# Altium integrated library TI Power Management LDO Single Channel(400-7500mA).IntLib: 1409 symbols (part 56 of 60)
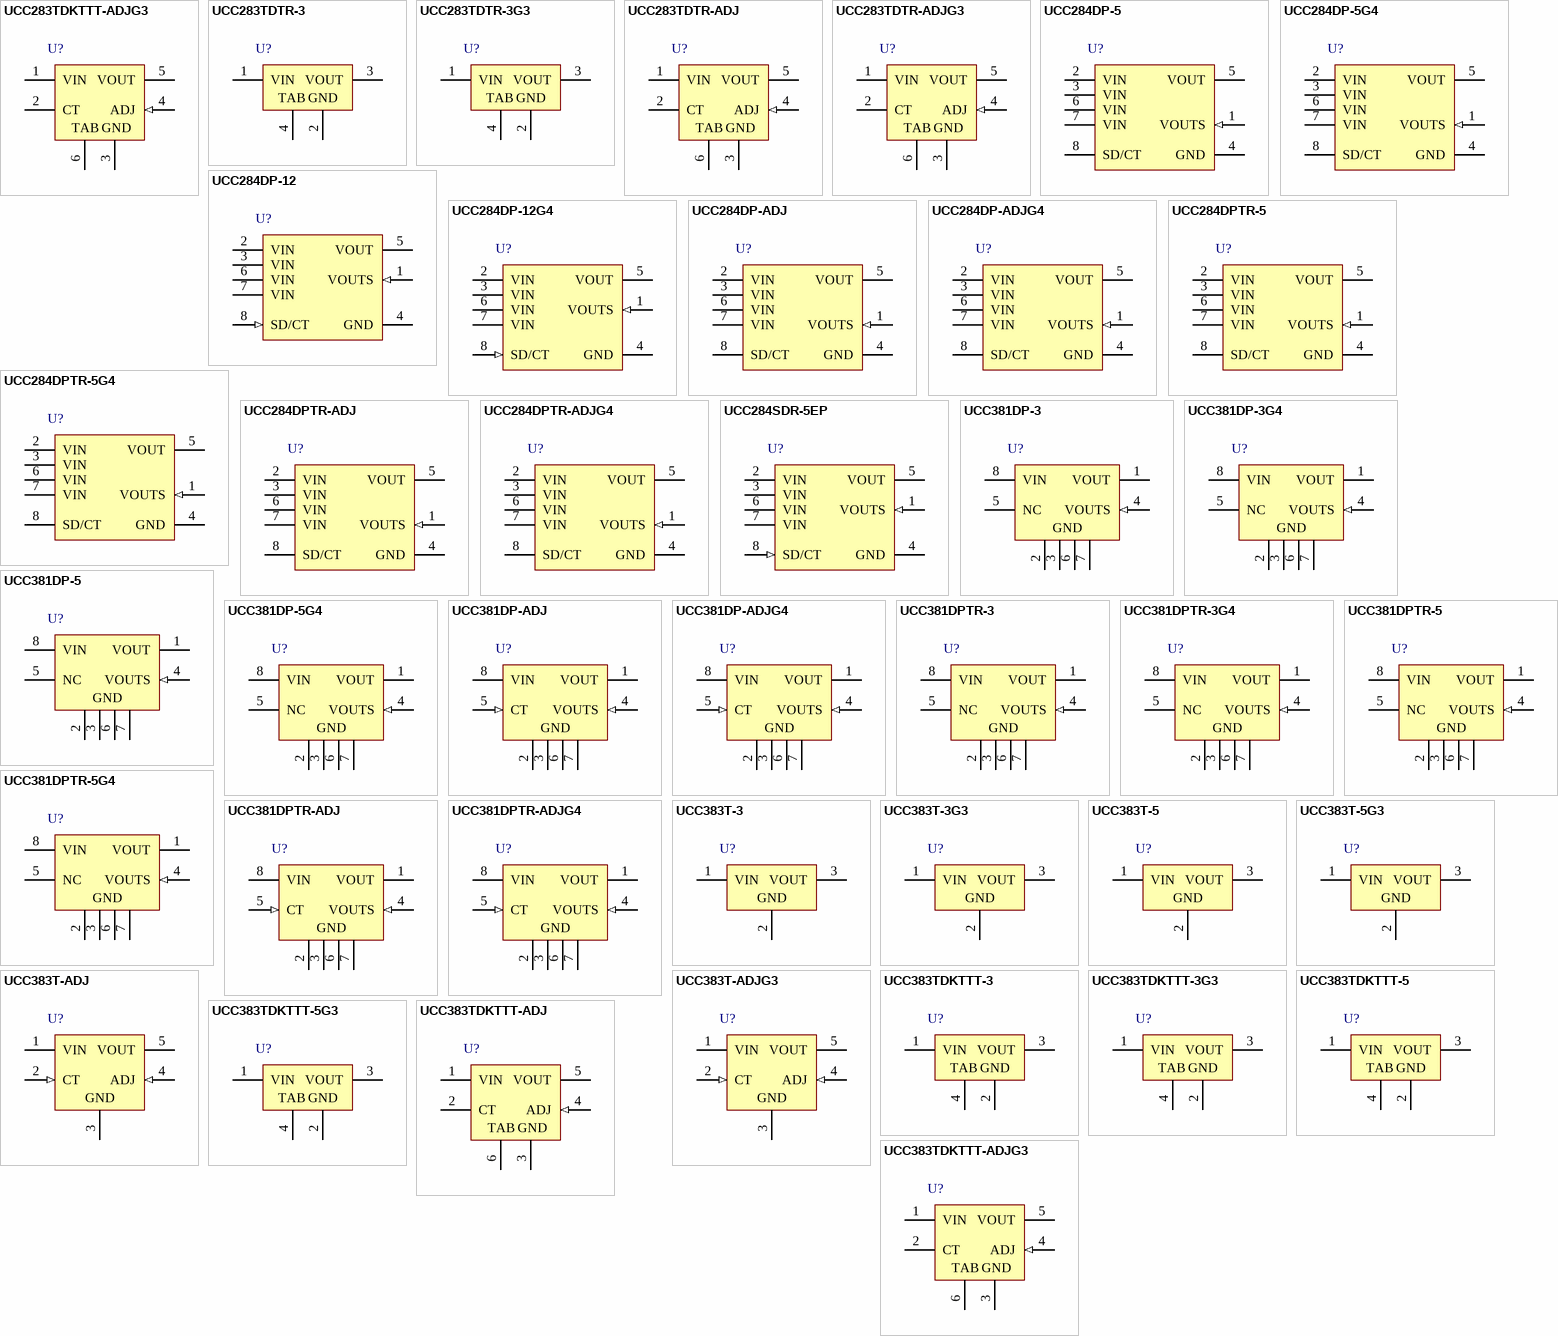
[diagram p105: symbols UCC283TDKTTT-ADJG3 to UCC383TDKTTT-ADJG3]

## UCC284DP-ADJG4
designator U?
Single Output LDO, 500 mA, Adjustable -1.25 to -15 V Output, -3.2 to -15 V Input, with Low IQ, 8-pin SOIC (D), -40 to 85 degC, Green (RoHS & no Sb/Br); Manufacturer: Texas Instruments; PartNumber: UCC284DP-ADJG4; Accuracy(%): 2.5; Iout(Max)(A): 0.5; Iq(Typ)(mA): 0.2; SubFamily: Single Channel LDO; Vdo(Typ)(mV): 250; Vout Adj(Min)(V): -1.2; DatasheetVersion: SLUS234D; PackageVersion: 4040047-3/M; PackageReference: D8; PackageDescription: 8-Pin Plastic Small Outline, Body 4.9 x 3.9 mm, Pitch 1.27 mm; Supplier 1: Digi-Key; Supplier Part Number 1: UCC284DP-ADJG4-ND; Supplier 2: Newark; Supplier Part Number 2: 61K1960; Supplier 3: Mouser; Supplier Part Number 3: 595-UCC284DP-ADJG4; Eco-Plan: Green (RoHS & no Sb/Br); Vin(Max)(V): -15; Vin(Min)(V): -3.2; Vout Adj(Max)(V): -15; Mounting Technology: Surface Mount; Code_JEDEC: MS-012; ComponentLink1Description: Manufacturer URL; ComponentLink1URL: http://www.ti.com/; ComponentLink2Description: Datasheet; ComponentLink2URL: http://www.ti.com/general/docs/lit/getliterature.tsp?genericPartNumber=UCC284-ADJ&fileType=pdf; ComponentLink3Description: Package Specification; ComponentLink3URL: http://www.ti.com/litv/pdf/msoi002j
footprint TI-D8_N (SOIC, 8-Leads, Body 4.9x3.9mm, Pitch 1.27mm, IPC Medium Density)
footprint TI-D8_L (SOIC, 8-Leads, Body 4.9x3.9mm, Pitch 1.27mm, IPC High Density)
footprint TI-D8_M (SOIC, 8-Leads, Body 4.9x3.9mm, Pitch 1.27mm, IPC Low Density)
pins: 1 VOUTS (in) "This is the feedback pin for sensing the output of the regulator. For the UCC384-5 and UCC384-12 versions, VOUTS can be connected directly to VOUT. If the load is placed at a considerable distance from the regulator, the (See Datasheet)", 2 VIN (power) "This is the negative input supply. Bypass this pin to GND with at least 1 µF of low ESR or ESL capacitance.", 3 VIN (power) "This is the negative input supply. Bypass this pin to GND with at least 1 µF of low ESR or ESL capacitance.", 4 GND (power) "This is the low noise ground reference input. All voltages are measured with respect to the GND pin.", 5 VOUT (power) "Regulated negative-output voltage. A single 4.7-µF capacitor should be connected between this pin and GND. Smaller value capacitors can be used for light loads, but this degrades the load-step performance of the regulator.", 6 VIN (power) "This is the negative input supply. Bypass this pin to GND with at least 1 µF of low ESR or ESL capacitance.", 7 VIN (power) "This is the negative input supply. Bypass this pin to GND with at least 1 µF of low ESR or ESL capacitance.", 8 SD/CT "This is the shutdown pin and also the short-circuit timing pin. Pulling this pin more positive than -0.7 V puts the circuit in a low-current shutdown mode. Placing a timing capacitor between this pin and GND sets the (See Datasheet)"

## UCC284DPTR-5
designator U?
Single Output LDO, 500 mA, Fixed -5 V Output, -3.2 to -15 V Input, with Low IQ, 8-pin SOIC (D), -40 to 85 degC, Green (RoHS & no Sb/Br); Manufacturer: Texas Instruments; PartNumber: UCC284DPTR-5; Accuracy(%): 2.5; Iout(Max)(A): 0.5; Iq(Typ)(mA): 0.2; SubFamily: Single Channel LDO; Vdo(Typ)(mV): 200; DatasheetVersion: SLUS234D; PackageVersion: 4040047-3/M; PackageReference: D8; PackageDescription: 8-Pin Plastic Small Outline, Body 4.9 x 3.9 mm, Pitch 1.27 mm; Supplier 1: Digi-Key; Supplier Part Number 1: UCC284DPTR-5-ND; Supplier 2: Newark; Supplier Part Number 2: 77C2158; Supplier 3: Mouser; Supplier Part Number 3: 595-UCC284DPTR-5; Eco-Plan: Green (RoHS & no Sb/Br); Fixed Output Options(V): -5; Vin(Max)(V): -15; Vin(Min)(V): -3.2; Vout Adj(Max)(V): -5; Vout Adj(Min)(V): -5; Mounting Technology: Surface Mount; Code_JEDEC: MS-012; ComponentLink1Description: Manufacturer URL; ComponentLink1URL: http://www.ti.com/; ComponentLink2Description: Datasheet; ComponentLink2URL: http://www.ti.com/general/docs/lit/getliterature.tsp?genericPartNumber=UCC284-5&fileType=pdf; ComponentLink3Description: Package Specification; ComponentLink3URL: http://www.ti.com/litv/pdf/msoi002j
footprint TI-D8_N (SOIC, 8-Leads, Body 4.9x3.9mm, Pitch 1.27mm, IPC Medium Density)
footprint TI-D8_L (SOIC, 8-Leads, Body 4.9x3.9mm, Pitch 1.27mm, IPC High Density)
footprint TI-D8_M (SOIC, 8-Leads, Body 4.9x3.9mm, Pitch 1.27mm, IPC Low Density)
pins: 1 VOUTS (in) "This is the feedback pin for sensing the output of the regulator. For the UCC384-5 and UCC384-12 versions, VOUTS can be connected directly to VOUT. If the load is placed at a considerable distance from the regulator, the (See Datasheet)", 2 VIN (power) "This is the negative input supply. Bypass this pin to GND with at least 1 µF of low ESR or ESL capacitance.", 3 VIN (power) "This is the negative input supply. Bypass this pin to GND with at least 1 µF of low ESR or ESL capacitance.", 4 GND (power) "This is the low noise ground reference input. All voltages are measured with respect to the GND pin.", 5 VOUT (power) "Regulated negative-output voltage. A single 4.7-µF capacitor should be connected between this pin and GND. Smaller value capacitors can be used for light loads, but this degrades the load-step performance of the regulator.", 6 VIN (power) "This is the negative input supply. Bypass this pin to GND with at least 1 µF of low ESR or ESL capacitance.", 7 VIN (power) "This is the negative input supply. Bypass this pin to GND with at least 1 µF of low ESR or ESL capacitance.", 8 SD/CT "This is the shutdown pin and also the short-circuit timing pin. Pulling this pin more positive than -0.7 V puts the circuit in a low-current shutdown mode. Placing a timing capacitor between this pin and GND sets the (See Datasheet)"

## UCC284DPTR-5G4
designator U?
Single Output LDO, 500 mA, Fixed -5 V Output, -3.2 to -15 V Input, with Low IQ, 8-pin SOIC (D), -40 to 85 degC, Green (RoHS & no Sb/Br); Manufacturer: Texas Instruments; PartNumber: UCC284DPTR-5G4; Accuracy(%): 2.5; Iout(Max)(A): 0.5; Iq(Typ)(mA): 0.2; SubFamily: Single Channel LDO; Vdo(Typ)(mV): 200; DatasheetVersion: SLUS234D; PackageVersion: 4040047-3/M; PackageReference: D8; PackageDescription: 8-Pin Plastic Small Outline, Body 4.9 x 3.9 mm, Pitch 1.27 mm; Supplier 1: Digi-Key; Supplier Part Number 1: UCC284DPTR-5G4-ND; Supplier 2: Mouser; Supplier Part Number 2: 595-UCC284DPTR-5G4; Eco-Plan: Green (RoHS & no Sb/Br); Fixed Output Options(V): -5; Vin(Max)(V): -15; Vin(Min)(V): -3.2; Vout Adj(Max)(V): -5; Vout Adj(Min)(V): -5; Mounting Technology: Surface Mount; Code_JEDEC: MS-012; ComponentLink1Description: Manufacturer URL; ComponentLink1URL: http://www.ti.com/; ComponentLink2Description: Datasheet; ComponentLink2URL: http://www.ti.com/general/docs/lit/getliterature.tsp?genericPartNumber=UCC284-5&fileType=pdf; ComponentLink3Description: Package Specification; ComponentLink3URL: http://www.ti.com/litv/pdf/msoi002j
footprint TI-D8_N (SOIC, 8-Leads, Body 4.9x3.9mm, Pitch 1.27mm, IPC Medium Density)
footprint TI-D8_L (SOIC, 8-Leads, Body 4.9x3.9mm, Pitch 1.27mm, IPC High Density)
footprint TI-D8_M (SOIC, 8-Leads, Body 4.9x3.9mm, Pitch 1.27mm, IPC Low Density)
pins: 1 VOUTS (in) "This is the feedback pin for sensing the output of the regulator. For the UCC384-5 and UCC384-12 versions, VOUTS can be connected directly to VOUT. If the load is placed at a considerable distance from the regulator, the (See Datasheet)", 2 VIN (power) "This is the negative input supply. Bypass this pin to GND with at least 1 µF of low ESR or ESL capacitance.", 3 VIN (power) "This is the negative input supply. Bypass this pin to GND with at least 1 µF of low ESR or ESL capacitance.", 4 GND (power) "This is the low noise ground reference input. All voltages are measured with respect to the GND pin.", 5 VOUT (power) "Regulated negative-output voltage. A single 4.7-µF capacitor should be connected between this pin and GND. Smaller value capacitors can be used for light loads, but this degrades the load-step performance of the regulator.", 6 VIN (power) "This is the negative input supply. Bypass this pin to GND with at least 1 µF of low ESR or ESL capacitance.", 7 VIN (power) "This is the negative input supply. Bypass this pin to GND with at least 1 µF of low ESR or ESL capacitance.", 8 SD/CT "This is the shutdown pin and also the short-circuit timing pin. Pulling this pin more positive than -0.7 V puts the circuit in a low-current shutdown mode. Placing a timing capacitor between this pin and GND sets the (See Datasheet)"

## UCC284DPTR-ADJ
designator U?
Single Output LDO, 500 mA, Adjustable -1.25 to -15 V Output, -3.2 to -15 V Input, with Low IQ, 8-pin SOIC (D), -40 to 85 degC, Green (RoHS & no Sb/Br); Manufacturer: Texas Instruments; PartNumber: UCC284DPTR-ADJ; Accuracy(%): 2.5; Iout(Max)(A): 0.5; Iq(Typ)(mA): 0.2; SubFamily: Single Channel LDO; Vdo(Typ)(mV): 250; Vout Adj(Min)(V): -1.2; DatasheetVersion: SLUS234D; PackageVersion: 4040047-3/M; PackageReference: D8; PackageDescription: 8-Pin Plastic Small Outline, Body 4.9 x 3.9 mm, Pitch 1.27 mm; Supplier 1: Digi-Key; Supplier Part Number 1: UCC284DPTR-ADJ-ND; Supplier 2: Mouser; Supplier Part Number 2: 595-UCC284DPTR-ADJ; Eco-Plan: Green (RoHS & no Sb/Br); Vin(Max)(V): -15; Vin(Min)(V): -3.2; Vout Adj(Max)(V): -15; Mounting Technology: Surface Mount; Code_JEDEC: MS-012; ComponentLink1Description: Manufacturer URL; ComponentLink1URL: http://www.ti.com/; ComponentLink2Description: Datasheet; ComponentLink2URL: http://www.ti.com/general/docs/lit/getliterature.tsp?genericPartNumber=UCC284-ADJ&fileType=pdf; ComponentLink3Description: Package Specification; ComponentLink3URL: http://www.ti.com/litv/pdf/msoi002j
footprint TI-D8_N (SOIC, 8-Leads, Body 4.9x3.9mm, Pitch 1.27mm, IPC Medium Density)
footprint TI-D8_L (SOIC, 8-Leads, Body 4.9x3.9mm, Pitch 1.27mm, IPC High Density)
footprint TI-D8_M (SOIC, 8-Leads, Body 4.9x3.9mm, Pitch 1.27mm, IPC Low Density)
pins: 1 VOUTS (in) "This is the feedback pin for sensing the output of the regulator. For the UCC384-5 and UCC384-12 versions, VOUTS can be connected directly to VOUT. If the load is placed at a considerable distance from the regulator, the (See Datasheet)", 2 VIN (power) "This is the negative input supply. Bypass this pin to GND with at least 1 µF of low ESR or ESL capacitance.", 3 VIN (power) "This is the negative input supply. Bypass this pin to GND with at least 1 µF of low ESR or ESL capacitance.", 4 GND (power) "This is the low noise ground reference input. All voltages are measured with respect to the GND pin.", 5 VOUT (power) "Regulated negative-output voltage. A single 4.7-µF capacitor should be connected between this pin and GND. Smaller value capacitors can be used for light loads, but this degrades the load-step performance of the regulator.", 6 VIN (power) "This is the negative input supply. Bypass this pin to GND with at least 1 µF of low ESR or ESL capacitance.", 7 VIN (power) "This is the negative input supply. Bypass this pin to GND with at least 1 µF of low ESR or ESL capacitance.", 8 SD/CT "This is the shutdown pin and also the short-circuit timing pin. Pulling this pin more positive than -0.7 V puts the circuit in a low-current shutdown mode. Placing a timing capacitor between this pin and GND sets the (See Datasheet)"

## UCC284DPTR-ADJG4
designator U?
Single Output LDO, 500 mA, Adjustable -1.25 to -15 V Output, -3.2 to -15 V Input, with Low IQ, 8-pin SOIC (D), -40 to 85 degC, Green (RoHS & no Sb/Br); Manufacturer: Texas Instruments; PartNumber: UCC284DPTR-ADJG4; Accuracy(%): 2.5; Iout(Max)(A): 0.5; Iq(Typ)(mA): 0.2; SubFamily: Single Channel LDO; Vdo(Typ)(mV): 250; Vout Adj(Min)(V): -1.2; DatasheetVersion: SLUS234D; PackageVersion: 4040047-3/M; PackageReference: D8; PackageDescription: 8-Pin Plastic Small Outline, Body 4.9 x 3.9 mm, Pitch 1.27 mm; Supplier 1: Digi-Key; Supplier Part Number 1: UCC284DPTR-ADJG4-ND; Supplier 2: Mouser; Supplier Part Number 2: 595-UCC284DPTR-ADJG4; Eco-Plan: Green (RoHS & no Sb/Br); Vin(Max)(V): -15; Vin(Min)(V): -3.2; Vout Adj(Max)(V): -15; Mounting Technology: Surface Mount; Code_JEDEC: MS-012; ComponentLink1Description: Manufacturer URL; ComponentLink1URL: http://www.ti.com/; ComponentLink2Description: Datasheet; ComponentLink2URL: http://www.ti.com/general/docs/lit/getliterature.tsp?genericPartNumber=UCC284-ADJ&fileType=pdf; ComponentLink3Description: Package Specification; ComponentLink3URL: http://www.ti.com/litv/pdf/msoi002j
footprint TI-D8_N (SOIC, 8-Leads, Body 4.9x3.9mm, Pitch 1.27mm, IPC Medium Density)
footprint TI-D8_L (SOIC, 8-Leads, Body 4.9x3.9mm, Pitch 1.27mm, IPC High Density)
footprint TI-D8_M (SOIC, 8-Leads, Body 4.9x3.9mm, Pitch 1.27mm, IPC Low Density)
pins: 1 VOUTS (in) "This is the feedback pin for sensing the output of the regulator. For the UCC384-5 and UCC384-12 versions, VOUTS can be connected directly to VOUT. If the load is placed at a considerable distance from the regulator, the (See Datasheet)", 2 VIN (power) "This is the negative input supply. Bypass this pin to GND with at least 1 µF of low ESR or ESL capacitance.", 3 VIN (power) "This is the negative input supply. Bypass this pin to GND with at least 1 µF of low ESR or ESL capacitance.", 4 GND (power) "This is the low noise ground reference input. All voltages are measured with respect to the GND pin.", 5 VOUT (power) "Regulated negative-output voltage. A single 4.7-µF capacitor should be connected between this pin and GND. Smaller value capacitors can be used for light loads, but this degrades the load-step performance of the regulator.", 6 VIN (power) "This is the negative input supply. Bypass this pin to GND with at least 1 µF of low ESR or ESL capacitance.", 7 VIN (power) "This is the negative input supply. Bypass this pin to GND with at least 1 µF of low ESR or ESL capacitance.", 8 SD/CT "This is the shutdown pin and also the short-circuit timing pin. Pulling this pin more positive than -0.7 V puts the circuit in a low-current shutdown mode. Placing a timing capacitor between this pin and GND sets the (See Datasheet)"

## UCC284SDR-5EP
designator U?
Single Output LDO, 500 mA, Fixed -5 V Output, -3.2 to -15 V Input, with Low IQ, 8-pin SOIC (D), -55 to 100 degC, Green (RoHS & no Sb/Br); Manufacturer: Texas Instruments; PartNumber: UCC284SDR-5EP; Accuracy(%): 2.5; Iout(Max)(A): 0.5; Iq(Typ)(mA): 0.2; SubFamily: Single Channel LDO; Vdo(Typ)(mV): 200; DatasheetVersion: SLVS862A; PackageVersion: 4040047-3/M; PackageReference: D8; PackageDescription: 8-Pin Plastic Small Outline, Body 4.9 x 3.9 mm, Pitch 1.27 mm; Supplier 1: Digi-Key; Supplier Part Number 1: 296-24018-2-ND; Supplier 2: Digi-Key; Supplier Part Number 2: 296-24018-1-ND; Supplier 3: Digi-Key; Supplier Part Number 3: 296-24018-6-ND; Supplier 4: Newark; Supplier Part Number 4: 79R8630; Supplier 5: Mouser; Supplier Part Number 5: 595-UCC284SDR-5EP; Eco-Plan: Green (RoHS & no Sb/Br); Fixed Output Options(V): -5; Vin(Max)(V): -15; Vin(Min)(V): -3.2; Vout Adj(Max)(V): -5; Vout Adj(Min)(V): -5; Mounting Technology: Surface Mount; Code_JEDEC: MS-012; ComponentLink1Description: Manufacturer URL; ComponentLink1URL: http://www.ti.com/; ComponentLink2Description: Datasheet; ComponentLink2URL: http://www.ti.com/general/docs/lit/getliterature.tsp?genericPartNumber=UCC284-EP&fileType=pdf; ComponentLink3Description: Package Specification; ComponentLink3URL: http://www.ti.com/litv/pdf/msoi002j
footprint TI-D8_N (SOIC, 8-Leads, Body 4.9x3.9mm, Pitch 1.27mm, IPC Medium Density)
footprint TI-D8_L (SOIC, 8-Leads, Body 4.9x3.9mm, Pitch 1.27mm, IPC High Density)
footprint TI-D8_M (SOIC, 8-Leads, Body 4.9x3.9mm, Pitch 1.27mm, IPC Low Density)
pins: 1 VOUTS (in) "This is the feedback pin for sensing the output of the regulator.", 2 VIN (power) "This is the negative input supply.", 3 VIN (power) "This is the negative input supply.", 4 GND (power) "This is the low noise ground reference input. All voltages are measured with respect to the GND pin.", 5 VOUT (power) "Regulated negative-output voltage.", 6 VIN (power) "This is the negative input supply.", 7 VIN (power) "This is the negative input supply.", 8 SD/CT (in) "This is the shutdown pin and also the short-circuit timing pin. Pulling this pin more positive than -0.7 V puts the circuit in a low-current shutdown mode. Placing a timing capacitor between this pin and GND sets the (See Datasheet)"

## UCC381DP-3
designator U?
Single Output LDO, 1 A, Fixed 3.3 V Output, 3.9 to 9 V Input, with Low IQ, 8-pin SOIC (D), 0 to 70 degC, Green (RoHS & no Sb/Br); Manufacturer: Texas Instruments; PartNumber: UCC381DP-3; Accuracy(%): 2.5; Fixed Output Options(V): 3.3; Iout(Max)(A): 1; Iq(Typ)(mA): 0.4; Rating: Catalog; SubFamily: Single Channel LDO; Vdo(Typ)(mV): 500; Vin(Max)(V): 9; Vin(Min)(V): 3.9; DatasheetVersion: SLUS214B; PackageVersion: 4040047-3/M; PackageReference: D8; PackageDescription: 8-Pin Plastic Small Outline, Body 4.9 x 3.9 mm, Pitch 1.27 mm; Supplier 1: Digi-Key; Supplier Part Number 1: 296-2819-5-ND; Supplier 2: Newark; Supplier Part Number 2: 77C2438; Supplier 3: Mouser; Supplier Part Number 3: 595-UCC381DP-3; Eco-Plan: Green (RoHS & no Sb/Br); Vout Adj(Max)(V): 3.3; Vout Adj(Min)(V): 3.3; Mounting Technology: Surface Mount; Code_JEDEC: MS-012; ComponentLink1Description: Manufacturer URL; ComponentLink1URL: http://www.ti.com/; ComponentLink2Description: Datasheet; ComponentLink2URL: http://www.ti.com/general/docs/lit/getliterature.tsp?genericPartNumber=UCC381-3&fileType=pdf; ComponentLink3Description: Package Specification; ComponentLink3URL: http://www.ti.com/litv/pdf/msoi002j; ComponentLink4Description: URL Link1; ComponentLink4URL: Samples URL:http://www.ti.com/product/ucc381-3#samples
footprint TI-D8_N (SOIC, 8-Leads, Body 4.9x3.9mm, Pitch 1.27mm, IPC Medium Density)
footprint TI-D8_L (SOIC, 8-Leads, Body 4.9x3.9mm, Pitch 1.27mm, IPC High Density)
footprint TI-D8_M (SOIC, 8-Leads, Body 4.9x3.9mm, Pitch 1.27mm, IPC Low Density)
pins: 1 VOUT (power) "Output for regulator. The regulator does not require a minimum output capacitor for stability. Choose the appropriate size capacitor for the application with respect to the required transient loading. For example, if the (See Datasheet)", 2 GND (power) "All voltages are measured with respect to this pin.This is the low noise ground reference input for regulation. The output decoupling capacitor should be tied to PIN 7.", 3 GND (power) "All voltages are measured with respect to this pin.This is the low noise ground reference input for regulation. The output decoupling capacitor should be tied to PIN 7.", 4 VOUTS (in) "Feedback for regulator sensing of the output voltage. For loads which are a considerable resistive distance from the VOUT pin, the VOUTS pin can be used to move the resistance into the control loop of the regulator,thereby (See Datasheet)", 5 NC "No connection", 6 GND (power) "All voltages are measured with respect to this pin.This is the low noise ground reference input for regulation. The output decoupling capacitor should be tied to PIN 7.", 7 GND (power) "All voltages are measured with respect to this pin.This is the low noise ground reference input for regulation. The output decoupling capacitor should be tied to PIN 7.", 8 VIN (power) "Positive supply input for the regulator. Bypass this pin to GND with at least 1µF of low ESR, ESL capacitance if the source is located further than 1 inch from the device."

## UCC381DP-3G4
designator U?
Single Output LDO, 1 A, Fixed 3.3 V Output, 3.9 to 9 V Input, with Low IQ, 8-pin SOIC (D), 0 to 70 degC, Green (RoHS & no Sb/Br); Manufacturer: Texas Instruments; PartNumber: UCC381DP-3G4; Accuracy(%): 2.5; Fixed Output Options(V): 3.3; Iout(Max)(A): 1; Iq(Typ)(mA): 0.4; Rating: Catalog; SubFamily: Single Channel LDO; Vdo(Typ)(mV): 500; Vin(Max)(V): 9; Vin(Min)(V): 3.9; DatasheetVersion: SLUS214B; PackageVersion: 4040047-3/M; PackageReference: D8; PackageDescription: 8-Pin Plastic Small Outline, Body 4.9 x 3.9 mm, Pitch 1.27 mm; Supplier 1: Digi-Key; Supplier Part Number 1: UCC381DP-3G4-ND; Supplier 2: Mouser; Supplier Part Number 2: 595-UCC381DP-3G4; Eco-Plan: Green (RoHS & no Sb/Br); Vout Adj(Max)(V): 3.3; Vout Adj(Min)(V): 3.3; Mounting Technology: Surface Mount; Code_JEDEC: MS-012; ComponentLink1Description: Manufacturer URL; ComponentLink1URL: http://www.ti.com/; ComponentLink2Description: Datasheet; ComponentLink2URL: http://www.ti.com/general/docs/lit/getliterature.tsp?genericPartNumber=UCC381-3&fileType=pdf; ComponentLink3Description: Package Specification; ComponentLink3URL: http://www.ti.com/litv/pdf/msoi002j; ComponentLink4Description: URL Link1; ComponentLink4URL: Samples URL:http://www.ti.com/product/ucc381-3#samples
footprint TI-D8_N (SOIC, 8-Leads, Body 4.9x3.9mm, Pitch 1.27mm, IPC Medium Density)
footprint TI-D8_L (SOIC, 8-Leads, Body 4.9x3.9mm, Pitch 1.27mm, IPC High Density)
footprint TI-D8_M (SOIC, 8-Leads, Body 4.9x3.9mm, Pitch 1.27mm, IPC Low Density)
pins: 1 VOUT (power) "Output for regulator. The regulator does not require a minimum output capacitor for stability. Choose the appropriate size capacitor for the application with respect to the required transient loading. For example, if the (See Datasheet)", 2 GND (power) "All voltages are measured with respect to this pin.This is the low noise ground reference input for regulation. The output decoupling capacitor should be tied to PIN 7.", 3 GND (power) "All voltages are measured with respect to this pin.This is the low noise ground reference input for regulation. The output decoupling capacitor should be tied to PIN 7.", 4 VOUTS (in) "Feedback for regulator sensing of the output voltage. For loads which are a considerable resistive distance from the VOUT pin, the VOUTS pin can be used to move the resistance into the control loop of the regulator,thereby (See Datasheet)", 5 NC "No connection", 6 GND (power) "All voltages are measured with respect to this pin.This is the low noise ground reference input for regulation. The output decoupling capacitor should be tied to PIN 7.", 7 GND (power) "All voltages are measured with respect to this pin.This is the low noise ground reference input for regulation. The output decoupling capacitor should be tied to PIN 7.", 8 VIN (power) "Positive supply input for the regulator. Bypass this pin to GND with at least 1µF of low ESR, ESL capacitance if the source is located further than 1 inch from the device."

## UCC381DP-5
designator U?
Single Output LDO, 1 A, Fixed 5 V Output, 5.6 to 9 V Input, with Low IQ, 8-pin SOIC (D), 0 to 70 degC, Green (RoHS & no Sb/Br); Manufacturer: Texas Instruments; PartNumber: UCC381DP-5; Accuracy(%): 2.5; Fixed Output Options(V): 5; Iout(Max)(A): 1; Iq(Typ)(mA): 0.4; Rating: Catalog; SubFamily: Single Channel LDO; Vdo(Typ)(mV): 500; Vin(Max)(V): 9; Vin(Min)(V): 5.6; DatasheetVersion: SLUS214B; PackageVersion: 4040047-3/M; PackageReference: D8; PackageDescription: 8-Pin Plastic Small Outline, Body 4.9 x 3.9 mm, Pitch 1.27 mm; Supplier 1: Digi-Key; Supplier Part Number 1: 296-2820-5-ND; Supplier 2: Mouser; Supplier Part Number 2: 595-UCC381DP-5; Eco-Plan: Green (RoHS & no Sb/Br); Vout Adj(Max)(V): 5; Vout Adj(Min)(V): 5; Mounting Technology: Surface Mount; Code_JEDEC: MS-012; ComponentLink1Description: Manufacturer URL; ComponentLink1URL: http://www.ti.com/; ComponentLink2Description: Datasheet; ComponentLink2URL: http://www.ti.com/general/docs/lit/getliterature.tsp?genericPartNumber=UCC381-5&fileType=pdf; ComponentLink3Description: Package Specification; ComponentLink3URL: http://www.ti.com/litv/pdf/msoi002j; ComponentLink4Description: URL Link1; ComponentLink4URL: Samples URL:http://www.ti.com/product/ucc381-5#samples
footprint TI-D8_N (SOIC, 8-Leads, Body 4.9x3.9mm, Pitch 1.27mm, IPC Medium Density)
footprint TI-D8_L (SOIC, 8-Leads, Body 4.9x3.9mm, Pitch 1.27mm, IPC High Density)
footprint TI-D8_M (SOIC, 8-Leads, Body 4.9x3.9mm, Pitch 1.27mm, IPC Low Density)
pins: 1 VOUT (power) "Output for regulator. The regulator does not require a minimum output capacitor for stability. Choose the appropriate size capacitor for the application with respect to the required transient loading. For example, if the (See Datasheet)", 2 GND (power) "All voltages are measured with respect to this pin.This is the low noise ground reference input for regulation. The output decoupling capacitor should be tied to PIN 7.", 3 GND (power) "All voltages are measured with respect to this pin.This is the low noise ground reference input for regulation. The output decoupling capacitor should be tied to PIN 7.", 4 VOUTS (in) "Feedback for regulator sensing of the output voltage. For loads which are a considerable resistive distance from the VOUT pin, the VOUTS pin can be used to move the resistance into the control loop of the regulator,thereby (See Datasheet)", 5 NC "No connection", 6 GND (power) "All voltages are measured with respect to this pin.This is the low noise ground reference input for regulation. The output decoupling capacitor should be tied to PIN 7.", 7 GND (power) "All voltages are measured with respect to this pin.This is the low noise ground reference input for regulation. The output decoupling capacitor should be tied to PIN 7.", 8 VIN (power) "Positive supply input for the regulator. Bypass this pin to GND with at least 1µF of low ESR, ESL capacitance if the source is located further than 1 inch from the device."

## UCC381DP-5G4
designator U?
Single Output LDO, 1 A, Fixed 5 V Output, 5.6 to 9 V Input, with Low IQ, 8-pin SOIC (D), 0 to 70 degC, Green (RoHS & no Sb/Br); Manufacturer: Texas Instruments; PartNumber: UCC381DP-5G4; Accuracy(%): 2.5; Fixed Output Options(V): 5; Iout(Max)(A): 1; Iq(Typ)(mA): 0.4; Rating: Catalog; SubFamily: Single Channel LDO; Vdo(Typ)(mV): 500; Vin(Max)(V): 9; Vin(Min)(V): 5.6; DatasheetVersion: SLUS214B; PackageVersion: 4040047-3/M; PackageReference: D8; PackageDescription: 8-Pin Plastic Small Outline, Body 4.9 x 3.9 mm, Pitch 1.27 mm; Supplier 1: Digi-Key; Supplier Part Number 1: UCC381DP-5G4-ND; Supplier 2: Mouser; Supplier Part Number 2: 595-UCC381DP-5G4; Eco-Plan: Green (RoHS & no Sb/Br); Vout Adj(Max)(V): 5; Vout Adj(Min)(V): 5; Mounting Technology: Surface Mount; Code_JEDEC: MS-012; ComponentLink1Description: Manufacturer URL; ComponentLink1URL: http://www.ti.com/; ComponentLink2Description: Datasheet; ComponentLink2URL: http://www.ti.com/general/docs/lit/getliterature.tsp?genericPartNumber=UCC381-5&fileType=pdf; ComponentLink3Description: Package Specification; ComponentLink3URL: http://www.ti.com/litv/pdf/msoi002j; ComponentLink4Description: URL Link1; ComponentLink4URL: Samples URL:http://www.ti.com/product/ucc381-5#samples
footprint TI-D8_N (SOIC, 8-Leads, Body 4.9x3.9mm, Pitch 1.27mm, IPC Medium Density)
footprint TI-D8_L (SOIC, 8-Leads, Body 4.9x3.9mm, Pitch 1.27mm, IPC High Density)
footprint TI-D8_M (SOIC, 8-Leads, Body 4.9x3.9mm, Pitch 1.27mm, IPC Low Density)
pins: 1 VOUT (power) "Output for regulator. The regulator does not require a minimum output capacitor for stability. Choose the appropriate size capacitor for the application with respect to the required transient loading. For example, if the (See Datasheet)", 2 GND (power) "All voltages are measured with respect to this pin.This is the low noise ground reference input for regulation. The output decoupling capacitor should be tied to PIN 7.", 3 GND (power) "All voltages are measured with respect to this pin.This is the low noise ground reference input for regulation. The output decoupling capacitor should be tied to PIN 7.", 4 VOUTS (in) "Feedback for regulator sensing of the output voltage. For loads which are a considerable resistive distance from the VOUT pin, the VOUTS pin can be used to move the resistance into the control loop of the regulator,thereby (See Datasheet)", 5 NC "No connection", 6 GND (power) "All voltages are measured with respect to this pin.This is the low noise ground reference input for regulation. The output decoupling capacitor should be tied to PIN 7.", 7 GND (power) "All voltages are measured with respect to this pin.This is the low noise ground reference input for regulation. The output decoupling capacitor should be tied to PIN 7.", 8 VIN (power) "Positive supply input for the regulator. Bypass this pin to GND with at least 1µF of low ESR, ESL capacitance if the source is located further than 1 inch from the device."

## UCC381DP-ADJ
designator U?
Single Output LDO, 1 A, Adjustable 1.22 to 8.85 V Output, 1.8 to 9 V Input, with Low IQ, 8-pin SOIC (D), 0 to 70 degC, Green (RoHS & no Sb/Br); Manufacturer: Texas Instruments; PartNumber: UCC381DP-ADJ; Accuracy(%): 2.5; Iout(Max)(A): 1; Iq(Typ)(mA): 0.4; Rating: Catalog; SubFamily: Single Channel LDO; Vdo(Typ)(mV): 500; Vin(Max)(V): 9; Vin(Min)(V): 1.8; Vout Adj(Max)(V): 8.85; Vout Adj(Min)(V): 1.22; DatasheetVersion: SLUS214B; PackageVersion: 4040047-3/M; PackageReference: D8; PackageDescription: 8-Pin Plastic Small Outline, Body 4.9 x 3.9 mm, Pitch 1.27 mm; Supplier 1: Digi-Key; Supplier Part Number 1: 296-2821-5-ND; Supplier 2: Mouser; Supplier Part Number 2: 595-UCC381DP-ADJ; Eco-Plan: Green (RoHS & no Sb/Br); Mounting Technology: Surface Mount; Code_JEDEC: MS-012; ComponentLink1Description: Manufacturer URL; ComponentLink1URL: http://www.ti.com/; ComponentLink2Description: Datasheet; ComponentLink2URL: http://www.ti.com/general/docs/lit/getliterature.tsp?genericPartNumber=UCC381-ADJ&fileType=pdf; ComponentLink3Description: Package Specification; ComponentLink3URL: http://www.ti.com/litv/pdf/msoi002j; ComponentLink4Description: URL Link1; ComponentLink4URL: Samples URL:http://www.ti.com/product/ucc381-adj#samples
footprint TI-D8_N (SOIC, 8-Leads, Body 4.9x3.9mm, Pitch 1.27mm, IPC Medium Density)
footprint TI-D8_L (SOIC, 8-Leads, Body 4.9x3.9mm, Pitch 1.27mm, IPC High Density)
footprint TI-D8_M (SOIC, 8-Leads, Body 4.9x3.9mm, Pitch 1.27mm, IPC Low Density)
pins: 1 VOUT (power) "Output for regulator. The regulator does not require a minimum output capacitor for stability. Choose the appropriate size capacitor for the application with respect to the required transient loading. For example, if the (See Datasheet)", 2 GND (power) "All voltages are measured with respect to this pin.This is the low noise ground reference input for regulation. The output decoupling capacitor should be tied to PIN 7.", 3 GND (power) "All voltages are measured with respect to this pin.This is the low noise ground reference input for regulation. The output decoupling capacitor should be tied to PIN 7.", 4 VOUTS (in) "Feedback for regulator sensing of the output voltage. For loads which are a considerable resistive distance from the VOUT pin, the VOUTS pin can be used to move the resistance into the control loop of the regulator,thereby (See Datasheet)", 5 CT (in) "For UCC381-3 and UCC381-5 versions, this is the shutdown pin which, when pulled low, turns off the regulator output and puts the device in a low current state.For the UCC381-ADJ version, a capacitor is required between the (See Datasheet)", 6 GND (power) "All voltages are measured with respect to this pin.This is the low noise ground reference input for regulation. The output decoupling capacitor should be tied to PIN 7.", 7 GND (power) "All voltages are measured with respect to this pin.This is the low noise ground reference input for regulation. The output decoupling capacitor should be tied to PIN 7.", 8 VIN (power) "Positive supply input for the regulator. Bypass this pin to GND with at least 1µF of low ESR, ESL capacitance if the source is located further than 1 inch from the device."

## UCC381DP-ADJG4
designator U?
Single Output LDO, 1 A, Adjustable 1.22 to 8.85 V Output, 1.8 to 9 V Input, with Low IQ, 8-pin SOIC (D), 0 to 70 degC, Green (RoHS & no Sb/Br); Manufacturer: Texas Instruments; PartNumber: UCC381DP-ADJG4; Accuracy(%): 2.5; Iout(Max)(A): 1; Iq(Typ)(mA): 0.4; Rating: Catalog; SubFamily: Single Channel LDO; Vdo(Typ)(mV): 500; Vin(Max)(V): 9; Vin(Min)(V): 1.8; Vout Adj(Max)(V): 8.85; Vout Adj(Min)(V): 1.22; DatasheetVersion: SLUS214B; PackageVersion: 4040047-3/M; PackageReference: D8; PackageDescription: 8-Pin Plastic Small Outline, Body 4.9 x 3.9 mm, Pitch 1.27 mm; Supplier 1: Digi-Key; Supplier Part Number 1: UCC381DP-ADJG4-ND; Supplier 2: Mouser; Supplier Part Number 2: 595-UCC381DP-ADJG4; Eco-Plan: Green (RoHS & no Sb/Br); Mounting Technology: Surface Mount; Code_JEDEC: MS-012; ComponentLink1Description: Manufacturer URL; ComponentLink1URL: http://www.ti.com/; ComponentLink2Description: Datasheet; ComponentLink2URL: http://www.ti.com/general/docs/lit/getliterature.tsp?genericPartNumber=UCC381-ADJ&fileType=pdf; ComponentLink3Description: Package Specification; ComponentLink3URL: http://www.ti.com/litv/pdf/msoi002j; ComponentLink4Description: URL Link1; ComponentLink4URL: Samples URL:http://www.ti.com/product/ucc381-adj#samples
footprint TI-D8_N (SOIC, 8-Leads, Body 4.9x3.9mm, Pitch 1.27mm, IPC Medium Density)
footprint TI-D8_L (SOIC, 8-Leads, Body 4.9x3.9mm, Pitch 1.27mm, IPC High Density)
footprint TI-D8_M (SOIC, 8-Leads, Body 4.9x3.9mm, Pitch 1.27mm, IPC Low Density)
pins: 1 VOUT (power) "Output for regulator. The regulator does not require a minimum output capacitor for stability. Choose the appropriate size capacitor for the application with respect to the required transient loading. For example, if the (See Datasheet)", 2 GND (power) "All voltages are measured with respect to this pin.This is the low noise ground reference input for regulation. The output decoupling capacitor should be tied to PIN 7.", 3 GND (power) "All voltages are measured with respect to this pin.This is the low noise ground reference input for regulation. The output decoupling capacitor should be tied to PIN 7.", 4 VOUTS (in) "Feedback for regulator sensing of the output voltage. For loads which are a considerable resistive distance from the VOUT pin, the VOUTS pin can be used to move the resistance into the control loop of the regulator,thereby (See Datasheet)", 5 CT (in) "For UCC381-3 and UCC381-5 versions, this is the shutdown pin which, when pulled low, turns off the regulator output and puts the device in a low current state.For the UCC381-ADJ version, a capacitor is required between the (See Datasheet)", 6 GND (power) "All voltages are measured with respect to this pin.This is the low noise ground reference input for regulation. The output decoupling capacitor should be tied to PIN 7.", 7 GND (power) "All voltages are measured with respect to this pin.This is the low noise ground reference input for regulation. The output decoupling capacitor should be tied to PIN 7.", 8 VIN (power) "Positive supply input for the regulator. Bypass this pin to GND with at least 1µF of low ESR, ESL capacitance if the source is located further than 1 inch from the device."

## UCC381DPTR-3
designator U?
Single Output LDO, 1 A, Fixed 3.3 V Output, 3.9 to 9 V Input, with Low IQ, 8-pin SOIC (D), 0 to 70 degC, Green (RoHS & no Sb/Br); Manufacturer: Texas Instruments; PartNumber: UCC381DPTR-3; Accuracy(%): 2.5; Fixed Output Options(V): 3.3; Iout(Max)(A): 1; Iq(Typ)(mA): 0.4; Rating: Catalog; SubFamily: Single Channel LDO; Vdo(Typ)(mV): 500; Vin(Max)(V): 9; Vin(Min)(V): 3.9; DatasheetVersion: SLUS214B; PackageVersion: 4040047-3/M; PackageReference: D8; PackageDescription: 8-Pin Plastic Small Outline, Body 4.9 x 3.9 mm, Pitch 1.27 mm; Supplier 1: Digi-Key; Supplier Part Number 1: UCC381DPTR-3-ND; Supplier 2: Mouser; Supplier Part Number 2: 595-UCC381DPTR-3; Eco-Plan: Green (RoHS & no Sb/Br); Vout Adj(Max)(V): 3.3; Vout Adj(Min)(V): 3.3; Mounting Technology: Surface Mount; Code_JEDEC: MS-012; ComponentLink1Description: Manufacturer URL; ComponentLink1URL: http://www.ti.com/; ComponentLink2Description: Datasheet; ComponentLink2URL: http://www.ti.com/general/docs/lit/getliterature.tsp?genericPartNumber=UCC381-3&fileType=pdf; ComponentLink3Description: Package Specification; ComponentLink3URL: http://www.ti.com/litv/pdf/msoi002j; ComponentLink4Description: URL Link1; ComponentLink4URL: Samples URL:http://www.ti.com/product/ucc381-3#samples
footprint TI-D8_N (SOIC, 8-Leads, Body 4.9x3.9mm, Pitch 1.27mm, IPC Medium Density)
footprint TI-D8_L (SOIC, 8-Leads, Body 4.9x3.9mm, Pitch 1.27mm, IPC High Density)
footprint TI-D8_M (SOIC, 8-Leads, Body 4.9x3.9mm, Pitch 1.27mm, IPC Low Density)
pins: 1 VOUT (power) "Output for regulator. The regulator does not require a minimum output capacitor for stability. Choose the appropriate size capacitor for the application with respect to the required transient loading. For example, if the (See Datasheet)", 2 GND (power) "All voltages are measured with respect to this pin.This is the low noise ground reference input for regulation. The output decoupling capacitor should be tied to PIN 7.", 3 GND (power) "All voltages are measured with respect to this pin.This is the low noise ground reference input for regulation. The output decoupling capacitor should be tied to PIN 7.", 4 VOUTS (in) "Feedback for regulator sensing of the output voltage. For loads which are a considerable resistive distance from the VOUT pin, the VOUTS pin can be used to move the resistance into the control loop of the regulator,thereby (See Datasheet)", 5 NC "No connection", 6 GND (power) "All voltages are measured with respect to this pin.This is the low noise ground reference input for regulation. The output decoupling capacitor should be tied to PIN 7.", 7 GND (power) "All voltages are measured with respect to this pin.This is the low noise ground reference input for regulation. The output decoupling capacitor should be tied to PIN 7.", 8 VIN (power) "Positive supply input for the regulator. Bypass this pin to GND with at least 1µF of low ESR, ESL capacitance if the source is located further than 1 inch from the device."

## UCC381DPTR-3G4
designator U?
Single Output LDO, 1 A, Fixed 3.3 V Output, 3.9 to 9 V Input, with Low IQ, 8-pin SOIC (D), 0 to 70 degC, Green (RoHS & no Sb/Br); Manufacturer: Texas Instruments; PartNumber: UCC381DPTR-3G4; Accuracy(%): 2.5; Fixed Output Options(V): 3.3; Iout(Max)(A): 1; Iq(Typ)(mA): 0.4; Rating: Catalog; SubFamily: Single Channel LDO; Vdo(Typ)(mV): 500; Vin(Max)(V): 9; Vin(Min)(V): 3.9; DatasheetVersion: SLUS214B; PackageVersion: 4040047-3/M; PackageReference: D8; PackageDescription: 8-Pin Plastic Small Outline, Body 4.9 x 3.9 mm, Pitch 1.27 mm; Supplier 1: Digi-Key; Supplier Part Number 1: UCC381DPTR-3G4-ND; Supplier 2: Mouser; Supplier Part Number 2: 595-UCC381DPTR-3G4; Eco-Plan: Green (RoHS & no Sb/Br); Vout Adj(Max)(V): 3.3; Vout Adj(Min)(V): 3.3; Mounting Technology: Surface Mount; Code_JEDEC: MS-012; ComponentLink1Description: Manufacturer URL; ComponentLink1URL: http://www.ti.com/; ComponentLink2Description: Datasheet; ComponentLink2URL: http://www.ti.com/general/docs/lit/getliterature.tsp?genericPartNumber=UCC381-3&fileType=pdf; ComponentLink3Description: Package Specification; ComponentLink3URL: http://www.ti.com/litv/pdf/msoi002j; ComponentLink4Description: URL Link1; ComponentLink4URL: Samples URL:http://www.ti.com/product/ucc381-3#samples
footprint TI-D8_N (SOIC, 8-Leads, Body 4.9x3.9mm, Pitch 1.27mm, IPC Medium Density)
footprint TI-D8_L (SOIC, 8-Leads, Body 4.9x3.9mm, Pitch 1.27mm, IPC High Density)
footprint TI-D8_M (SOIC, 8-Leads, Body 4.9x3.9mm, Pitch 1.27mm, IPC Low Density)
pins: 1 VOUT (power) "Output for regulator. The regulator does not require a minimum output capacitor for stability. Choose the appropriate size capacitor for the application with respect to the required transient loading. For example, if the (See Datasheet)", 2 GND (power) "All voltages are measured with respect to this pin.This is the low noise ground reference input for regulation. The output decoupling capacitor should be tied to PIN 7.", 3 GND (power) "All voltages are measured with respect to this pin.This is the low noise ground reference input for regulation. The output decoupling capacitor should be tied to PIN 7.", 4 VOUTS (in) "Feedback for regulator sensing of the output voltage. For loads which are a considerable resistive distance from the VOUT pin, the VOUTS pin can be used to move the resistance into the control loop of the regulator,thereby (See Datasheet)", 5 NC "No connection", 6 GND (power) "All voltages are measured with respect to this pin.This is the low noise ground reference input for regulation. The output decoupling capacitor should be tied to PIN 7.", 7 GND (power) "All voltages are measured with respect to this pin.This is the low noise ground reference input for regulation. The output decoupling capacitor should be tied to PIN 7.", 8 VIN (power) "Positive supply input for the regulator. Bypass this pin to GND with at least 1µF of low ESR, ESL capacitance if the source is located further than 1 inch from the device."

## UCC381DPTR-5
designator U?
Single Output LDO, 1 A, Fixed 5 V Output, 5.6 to 9 V Input, with Low IQ, 8-pin SOIC (D), 0 to 70 degC, Green (RoHS & no Sb/Br); Manufacturer: Texas Instruments; PartNumber: UCC381DPTR-5; Accuracy(%): 2.5; Fixed Output Options(V): 5; Iout(Max)(A): 1; Iq(Typ)(mA): 0.4; Rating: Catalog; SubFamily: Single Channel LDO; Vdo(Typ)(mV): 500; Vin(Max)(V): 9; Vin(Min)(V): 5.6; DatasheetVersion: SLUS214B; PackageVersion: 4040047-3/M; PackageReference: D8; PackageDescription: 8-Pin Plastic Small Outline, Body 4.9 x 3.9 mm, Pitch 1.27 mm; Supplier 1: Digi-Key; Supplier Part Number 1: 296-29081-2-ND; Supplier 2: Digi-Key; Supplier Part Number 2: 296-29081-1-ND; Supplier 3: Digi-Key; Supplier Part Number 3: 296-29081-6-ND; Supplier 4: Mouser; Supplier Part Number 4: 595-UCC381DPTR-5; Eco-Plan: Green (RoHS & no Sb/Br); Vout Adj(Max)(V): 5; Vout Adj(Min)(V): 5; Mounting Technology: Surface Mount; Code_JEDEC: MS-012; ComponentLink1Description: Manufacturer URL; ComponentLink1URL: http://www.ti.com/; ComponentLink2Description: Datasheet; ComponentLink2URL: http://www.ti.com/general/docs/lit/getliterature.tsp?genericPartNumber=UCC381-5&fileType=pdf; ComponentLink3Description: Package Specification; ComponentLink3URL: http://www.ti.com/litv/pdf/msoi002j; ComponentLink4Description: URL Link1; ComponentLink4URL: Samples URL:http://www.ti.com/product/ucc381-5#samples
footprint TI-D8_N (SOIC, 8-Leads, Body 4.9x3.9mm, Pitch 1.27mm, IPC Medium Density)
footprint TI-D8_L (SOIC, 8-Leads, Body 4.9x3.9mm, Pitch 1.27mm, IPC High Density)
footprint TI-D8_M (SOIC, 8-Leads, Body 4.9x3.9mm, Pitch 1.27mm, IPC Low Density)
pins: 1 VOUT (power) "Output for regulator. The regulator does not require a minimum output capacitor for stability. Choose the appropriate size capacitor for the application with respect to the required transient loading. For example, if the (See Datasheet)", 2 GND (power) "All voltages are measured with respect to this pin.This is the low noise ground reference input for regulation. The output decoupling capacitor should be tied to PIN 7.", 3 GND (power) "All voltages are measured with respect to this pin.This is the low noise ground reference input for regulation. The output decoupling capacitor should be tied to PIN 7.", 4 VOUTS (in) "Feedback for regulator sensing of the output voltage. For loads which are a considerable resistive distance from the VOUT pin, the VOUTS pin can be used to move the resistance into the control loop of the regulator,thereby (See Datasheet)", 5 NC "No connection", 6 GND (power) "All voltages are measured with respect to this pin.This is the low noise ground reference input for regulation. The output decoupling capacitor should be tied to PIN 7.", 7 GND (power) "All voltages are measured with respect to this pin.This is the low noise ground reference input for regulation. The output decoupling capacitor should be tied to PIN 7.", 8 VIN (power) "Positive supply input for the regulator. Bypass this pin to GND with at least 1µF of low ESR, ESL capacitance if the source is located further than 1 inch from the device."

## UCC381DPTR-5G4
designator U?
Single Output LDO, 1 A, Fixed 5 V Output, 5.6 to 9 V Input, with Low IQ, 8-pin SOIC (D), 0 to 70 degC, Green (RoHS & no Sb/Br); Manufacturer: Texas Instruments; PartNumber: UCC381DPTR-5G4; Accuracy(%): 2.5; Fixed Output Options(V): 5; Iout(Max)(A): 1; Iq(Typ)(mA): 0.4; Rating: Catalog; SubFamily: Single Channel LDO; Vdo(Typ)(mV): 500; Vin(Max)(V): 9; Vin(Min)(V): 5.6; DatasheetVersion: SLUS214B; PackageVersion: 4040047-3/M; PackageReference: D8; PackageDescription: 8-Pin Plastic Small Outline, Body 4.9 x 3.9 mm, Pitch 1.27 mm; Supplier 1: Digi-Key; Supplier Part Number 1: UCC381DPTR-5G4-ND; Supplier 2: Mouser; Supplier Part Number 2: 595-UCC381DPTR-5G4; Eco-Plan: Green (RoHS & no Sb/Br); Vout Adj(Max)(V): 5; Vout Adj(Min)(V): 5; Mounting Technology: Surface Mount; Code_JEDEC: MS-012; ComponentLink1Description: Manufacturer URL; ComponentLink1URL: http://www.ti.com/; ComponentLink2Description: Datasheet; ComponentLink2URL: http://www.ti.com/general/docs/lit/getliterature.tsp?genericPartNumber=UCC381-5&fileType=pdf; ComponentLink3Description: Package Specification; ComponentLink3URL: http://www.ti.com/litv/pdf/msoi002j; ComponentLink4Description: URL Link1; ComponentLink4URL: Samples URL:http://www.ti.com/product/ucc381-5#samples
footprint TI-D8_N (SOIC, 8-Leads, Body 4.9x3.9mm, Pitch 1.27mm, IPC Medium Density)
footprint TI-D8_L (SOIC, 8-Leads, Body 4.9x3.9mm, Pitch 1.27mm, IPC High Density)
footprint TI-D8_M (SOIC, 8-Leads, Body 4.9x3.9mm, Pitch 1.27mm, IPC Low Density)
pins: 1 VOUT (power) "Output for regulator. The regulator does not require a minimum output capacitor for stability. Choose the appropriate size capacitor for the application with respect to the required transient loading. For example, if the (See Datasheet)", 2 GND (power) "All voltages are measured with respect to this pin.This is the low noise ground reference input for regulation. The output decoupling capacitor should be tied to PIN 7.", 3 GND (power) "All voltages are measured with respect to this pin.This is the low noise ground reference input for regulation. The output decoupling capacitor should be tied to PIN 7.", 4 VOUTS (in) "Feedback for regulator sensing of the output voltage. For loads which are a considerable resistive distance from the VOUT pin, the VOUTS pin can be used to move the resistance into the control loop of the regulator,thereby (See Datasheet)", 5 NC "No connection", 6 GND (power) "All voltages are measured with respect to this pin.This is the low noise ground reference input for regulation. The output decoupling capacitor should be tied to PIN 7.", 7 GND (power) "All voltages are measured with respect to this pin.This is the low noise ground reference input for regulation. The output decoupling capacitor should be tied to PIN 7.", 8 VIN (power) "Positive supply input for the regulator. Bypass this pin to GND with at least 1µF of low ESR, ESL capacitance if the source is located further than 1 inch from the device."